# EAGLE library part DRA818 (library dorji_module)
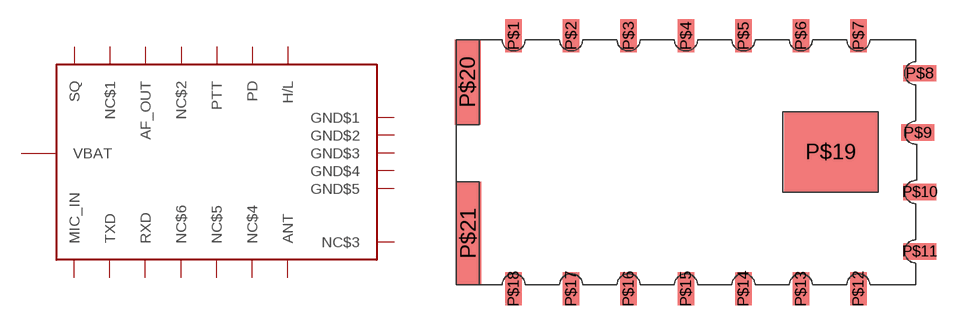
[diagram p0: symbol with the pads of DORJI_MODULE; footprint DORJI_MODULE]

Designator prefix U

## DRA818  [DORJI_MODULE]
P$1  SQ
P$2  NC$1  nc
P$3  AF_OUT
P$4  NC$2  nc
P$5  PTT
P$6  PD
P$7  H/L
P$8  VBAT  pwr
P$9  GND$1  pwr
P$10  GND$2  pwr
P$11  NC$3  nc
P$12  ANT
P$13  NC$4  nc
P$14  NC$5  nc
P$15  NC$6  nc
P$16  RXD
P$17  TXD
P$18  MIC_IN
P$19  GND$3  pwr
P$20  GND$4  pwr
P$21  GND$5  pwr

## Footprint DORJI_MODULE (pad centres in mm)
smd 1.27 x 2.54: P$1 4.45,19.3; P$2 8.9,19.3; P$3 13.35,19.3; P$4 17.8,19.3; P$5 22.25,19.3; P$6 26.7,19.3; P$7 31.15,19.3; P$12 31.15,-0.3; P$13 26.7,-0.3; P$14 22.25,-0.3; P$15 17.8,-0.3; P$16 13.35,-0.3; P$17 8.9,-0.3; P$18 4.45,-0.3
smd 2.54 x 1.27: P$8 35.9,16.4; P$9 35.75,11.8; P$10 35.9,7.2; P$11 35.9,2.6
smd 7.2 x 6.2: P$19 29,10.3
smd 2 x 6.6: P$20 0.9,15.7
smd 2 x 8: P$21 0.95,4